# Altium footprint library Capacitors_TH.PcbLib: 79 footprints (part 1 of 5)
Each footprint in its own frame and in the unit in brackets; x right, y up, seen from the top. Pads: shape width x height; smd on the part's side, far side on the other; paste and mask are expansions set on the pad; w line width, h text height; cw(c..) or ccw(c..) is an arc to the next point about the centre after c.
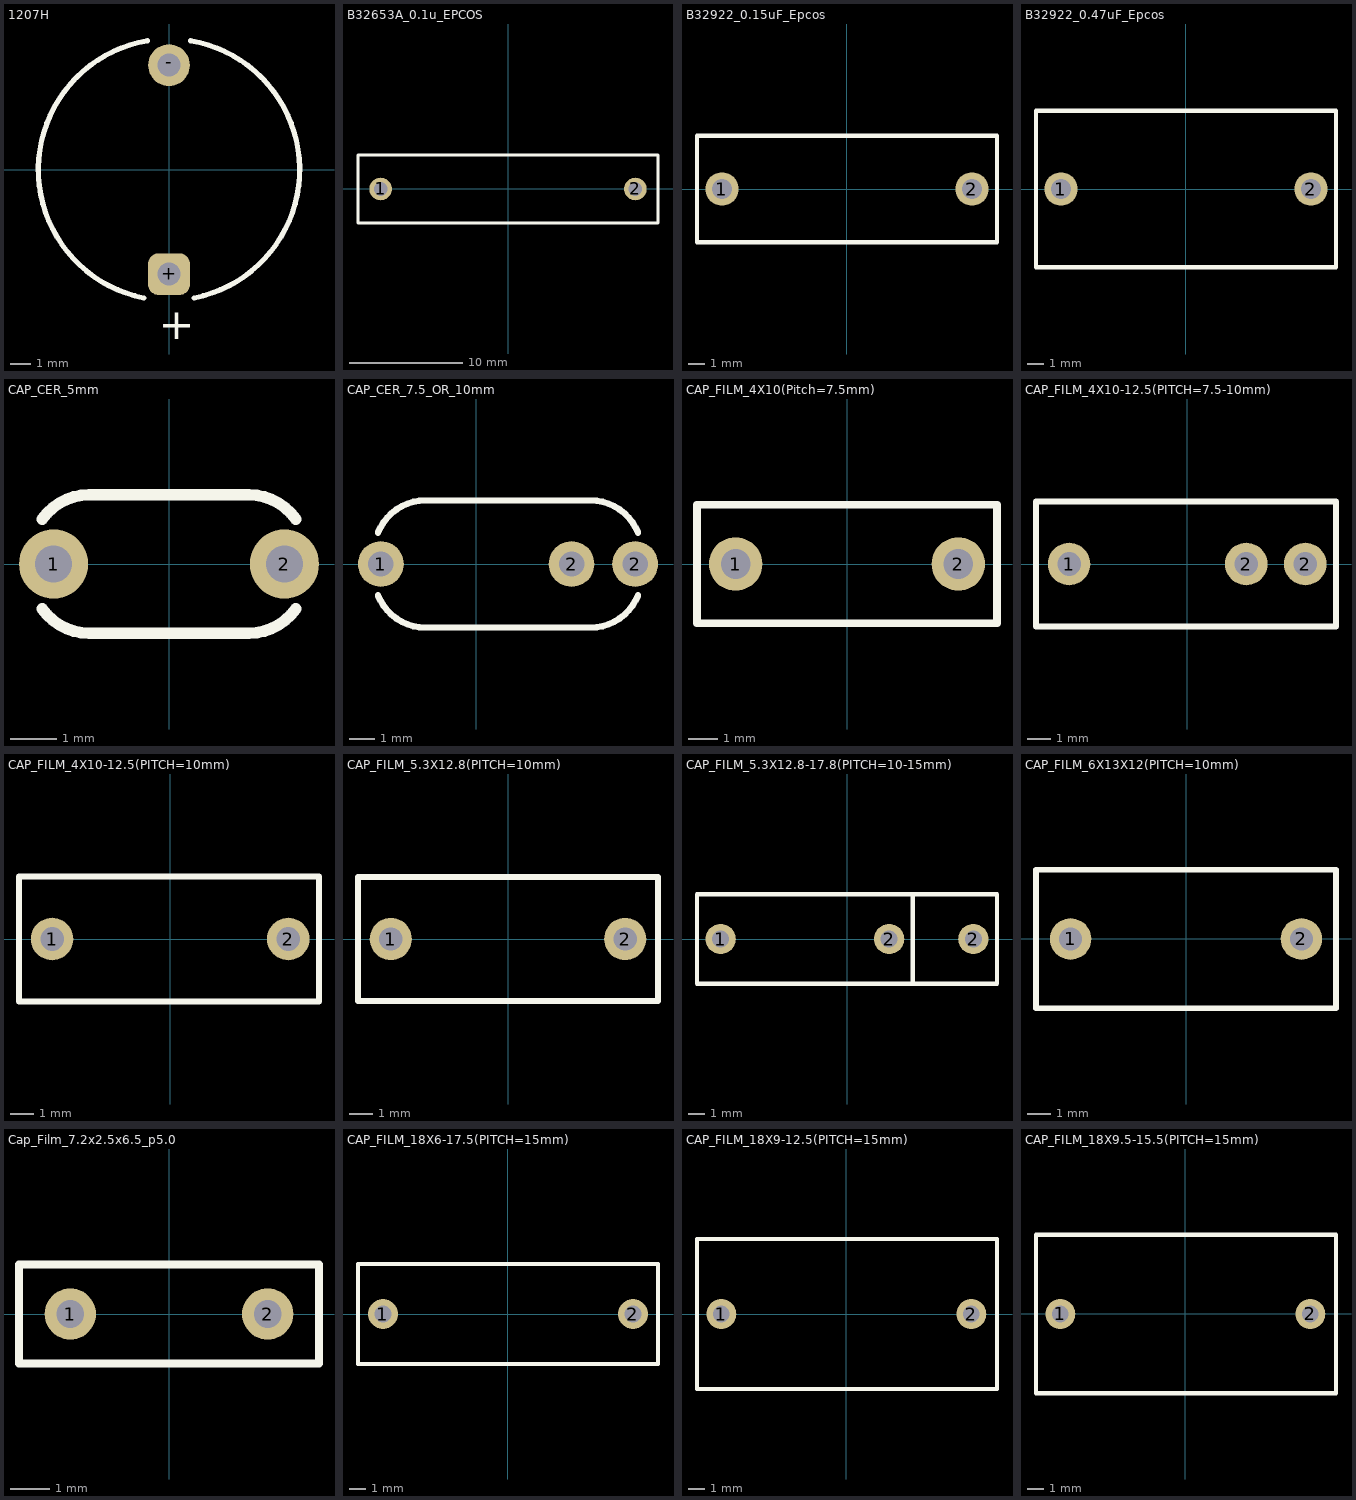
[diagram p0: the footprints below, top view; thin cyan lines are the x and y axes]

## 1207H [mm] "Electric Double Layer Capacitors"
height 6.5
pads (2):
  rrect50% 2x2 hole 1.1: +(0,-5)
  round 2 hole 1.1: -(0,5)
Top Overlay:
  lines w0.25: -1.206,-6.132 cw(c0,0) -1.027,6.165 ; 1.027,6.165 cw(c0,0) 1.206,-6.132
  text "+" at -0.5,-8.1 h1.5
3D body "eecs0hd334h.STEP": height 5.42, standoff -1.07, extent -5.25,-5.25 5.25,5.711

## B32653A_0.1u_EPCOS [mm] "26.5x6x15mm pitch 22.5"
height 15
pads (2):
  round 2 hole 1.2: 1(-11.25,0) 2(11.25,0)
Top Overlay:
  lines w0.254: -13.25,-3 -13.25,3 13.25,3 13.25,-3 -13.25,-3
3D body: height 15, standoff 0.1, extent -13.25,-3 13.25,3
3D body: height 0, standoff -2.5, extent -11.647,-0.403 -10.85,0.396
3D body: height 0, standoff -2.5, extent 10.853,-0.403 11.65,0.396

## B32922_0.15uF_Epcos [mm]
pads (2):
  round 2 hole 1.2: 1(-7.5,0) 2(7.5,0)
Top Overlay:
  lines w0.254: -9,-3.2 -9,3.2 9,3.2 9,-3.2 -9,-3.2
3D body "B32922_0.15uF_Epcos.STEP": height 12.1, standoff -2.4, extent -9,-3 9,3

## B32922_0.47uF_Epcos [mm]
height 17.5
pads (2):
  round 2 hole 1.2: 1(-7.5,0) 2(7.5,0)
Top Overlay:
  lines w0.254: -9,-4.7 9,-4.7 9,4.7 -9,4.7 -9,-4.7
3D body "B32922_0.47uF_Epcos.STEP": height 17.6, standoff -2.4, extent -9,-4.5 9,4.5

## CAP_CER_5mm [mm]
pads (2):
  round 1.5 hole 0.8: 1(-2.5,0) 2(2.5,0)
Top Overlay:
  lines w0.25: -2.75,-0.969 ccw(c-1.728,-0.25) -1.728,-1.5 1.728,-1.5 ccw(c1.728,-0.25) 2.75,-0.969 ; -2.75,0.969 cw(c-1.728,0.25) -1.728,1.5 1.728,1.5 cw(c1.728,0.25) 2.75,0.969
3D body "cdisk_p5-5_d5_th3.stp": height 7, standoff -3, extent -3.25,-1.5 3.25,1.5

## CAP_CER_7.5_OR_10mm [mm] "High-voltage ceramic disc capacitor"
height 8
pads (3):
  round 1.8 hole 1: 1(-3.75,0) 2(3.75,0) 2(6.25,0)
Top Overlay:
  lines w0.25: -3.862,-1.231 ccw(c-2,-0.5) -2,-2.5 4.5,-2.5 ccw(c4.5,-0.5) 6.362,-1.231 ; -3.862,1.231 cw(c-2,0.5) -2,2.5 4.5,2.5 cw(c4.5,0.5) 6.362,1.231
3D body "Y2_7x4.5_7.5mm_1.STEP": height 7.5, standoff -3, extent -4.215,-2.663 4.215,2.663

## CAP_FILM_4X10(Pitch=7.5mm) [mm] "MKP338 6 Y2 Film Capacitor"
height 9
pads (2):
  round 1.8 hole 1: 1(-3.75,0) 2(3.75,0)
Top Overlay:
  lines w0.254: -5.05,-2 -5.05,2 5.05,2 5.05,-2 -5.05,-2
3D body: height 9, standoff 0, extent -5.05,-2 5.05,2
3D body: height 0, standoff -2.5, extent -4.147,-0.403 -3.35,0.396
3D body: height 0, standoff -2.5, extent 3.353,-0.403 4.15,0.396

## CAP_FILM_4X10-12.5(PITCH=7.5-10mm) [mm] "KNB3382 X2, Film Capacitor"
height 9
pads (3):
  round 1.8 hole 1: 1(-5,0) 2(2.5,0) 2(5,0)
Top Overlay:
  lines w0.254: -6.4,-2.65 -6.4,2.65 6.3,2.65 6.3,-2.65 -6.4,-2.65
3D body: height 0, standoff -2.5, extent 4.603,-0.403 5.4,0.396
3D body: height 0, standoff -2.5, extent -5.397,-0.403 -4.6,0.396
3D body: height 9, standoff 0, extent -6.4,-2.65 6.3,2.65

## CAP_FILM_4X10-12.5(PITCH=10mm) [mm]
pads (2):
  round 1.8 hole 1: 1(-5,0) 2(5,0)
Top Overlay:
  lines w0.254: -6.4,-2.65 6.3,-2.65 6.3,2.65 -6.4,2.65 -6.4,-2.65
3D body: height 12.5, standoff 0, extent -6.4,-2.65 6.3,2.65

## CAP_FILM_5.3X12.8(PITCH=10mm) [mm]
height 11
pads (2):
  round 1.8 hole 1: 1(-5,0) 2(5,0)
Top Overlay:
  lines w0.254: -6.4,-2.65 6.4,-2.65 6.4,2.65 -6.4,2.65 -6.4,-2.65
3D body "KNB2520.STEP": height 11.1, standoff -2.4, extent -6.5,-2.5 6.5,2.5

## CAP_FILM_5.3X12.8-17.8(PITCH=10-15mm) [mm]
pads (3):
  round 1.8 hole 1: 1(-7.5,0) 2(2.5,0) 2(7.5,0)
Top Overlay:
  lines w0.254: 3.9,-2.65 3.9,2.65 ; -8.9,-2.65 -8.9,2.65 8.9,2.65 8.9,-2.65 -8.9,-2.65
3D body: height 0, standoff -2.5, extent 7.103,-0.403 7.9,0.396
3D body: height 0, standoff -2.5, extent -7.897,-0.403 -7.1,0.396
3D body: height 9, standoff 0, extent -8.9,-2.65 8.9,2.65

## CAP_FILM_6X13X12(PITCH=10mm) [mm]
height 12
pads (2):
  round 1.8 hole 1: 1(-5,0) 2(5,0)
Top Overlay:
  lines w0.25: -6.5,-3 6.5,-3 6.5,3 -6.5,3 -6.5,-3
3D body: height 12, standoff 0, extent -6.5,-3 6.5,3
3D body "KNB2520.STEP": height 11.1, standoff -2.4, extent -6.5,-2.5 6.5,2.5

## Cap_Film_7.2x2.5x6.5_p5.0 [mm] "Thru-Hole; 2 Leads; 5mm Pin Spacing"
height 6.5
pads (2):
  round 1.3 hole 0.7: 1(-2.5,0) 2(2.5,0)
Top Overlay:
  lines w0.2: -3.8,-1.25 -3.8,1.25 3.8,1.25 3.8,-1.25 -3.8,-1.25
3D body: height 6.5, standoff 0, extent -3.8,-1.25 3.8,1.25
3D body: height 0, standoff -3, extent -2.75,-0.25 -2.252,0.25
3D body: height 0, standoff -3, extent 2.25,-0.25 2.748,0.25

## CAP_FILM_18X6-17.5(PITCH=15mm) [mm] "MPX474K31DTKN158G0"
height 19
pads (2):
  round 1.8 hole 1: 1(-7.5,0) 2(7.5,0)
Top Overlay:
  lines w0.254: -9,-3 9,-3 9,3 -9,3 -9,-3
3D body: height 0, standoff -2.5, extent 7.103,-0.403 7.9,0.396
3D body: height 0, standoff -2.5, extent -7.897,-0.403 -7.1,0.396
3D body: height 17.5, standoff 0, extent -9,-3 9,3

## CAP_FILM_18X9-12.5(PITCH=15mm) [mm]
pads (2):
  round 1.8 hole 1: 1(-7.5,0) 2(7.5,0)
Top Overlay:
  lines w0.254: -8.958,-4.5 9.042,-4.5 9.042,4.5 -8.958,4.5 -8.958,-4.5
3D body: height 12.5, standoff 0, extent -9,-4.5 9,4.5
3D body: height 0, standoff -2.5, extent -7.897,-0.403 -7.1,0.396
3D body: height 0, standoff -2.5, extent 7.103,-0.403 7.9,0.396

## CAP_FILM_18X9.5-15.5(PITCH=15mm) [mm]
pads (2):
  round 1.8 hole 1: 1(-7.5,0) 2(7.5,0)
Top Overlay:
  lines w0.254: -8.958,-4.75 9.042,-4.75 9.042,4.75 -8.958,4.75 -8.958,-4.75
3D body: height 0, standoff -2.5, extent 7.103,-0.403 7.9,0.396
3D body: height 0, standoff -2.5, extent -7.897,-0.403 -7.1,0.396
3D body: height 15.5, standoff 0, extent -9,-4.75 9,4.75